# Altium footprint library PTZTFTE2575B.PcbLib: 1 footprints
Each footprint in its own frame and in the unit in brackets; x right, y up, seen from the top. Pads: shape width x height; smd on the part's side, far side on the other; paste and mask are expansions set on the pad; w line width, h text height; cw(c..) or ccw(c..) is an arc to the next point about the centre after c.
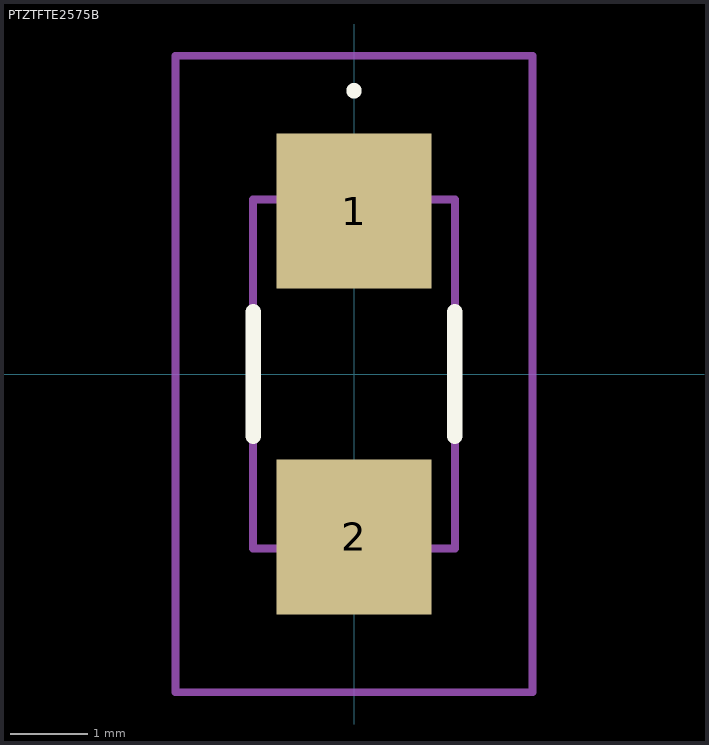
[diagram p0: the footprint, top view; thin cyan lines are the x and y axes]

## PTZTFTE2575B [mm]
pads (2):
  rect 2x2 smd: 1(0,2.1) 2(0,-2.1)
Top Overlay:
  lines w0.1: 0,3.6 0,3.6 ; 0,3.6 ccw(c0,3.65) 0,3.7 ; 0,3.6 cw(c0,3.65) 0,3.7 ; 0,3.7 0,3.7
  lines w0.2: -1.3,-0.8 -1.3,0.8 ; 1.3,-0.8 1.3,0.8
Mechanical 15:
  lines w0.1: -1.3,-2.25 1.3,-2.25 1.3,2.25 -1.3,2.25 -1.3,-2.25
Mechanical 20:
  lines w0.1: -2.3,-4.1 2.3,-4.1 2.3,4.1 -2.3,4.1 -2.3,-4.1
3D body "PTZTFTE257.5B.stp": height 5.8, standoff -4.65, extent -10,-3.376 10,3.376